# Altium integrated library Renesas Microprocessor SuperH.IntLib: 433 symbols (part 25 of 62)
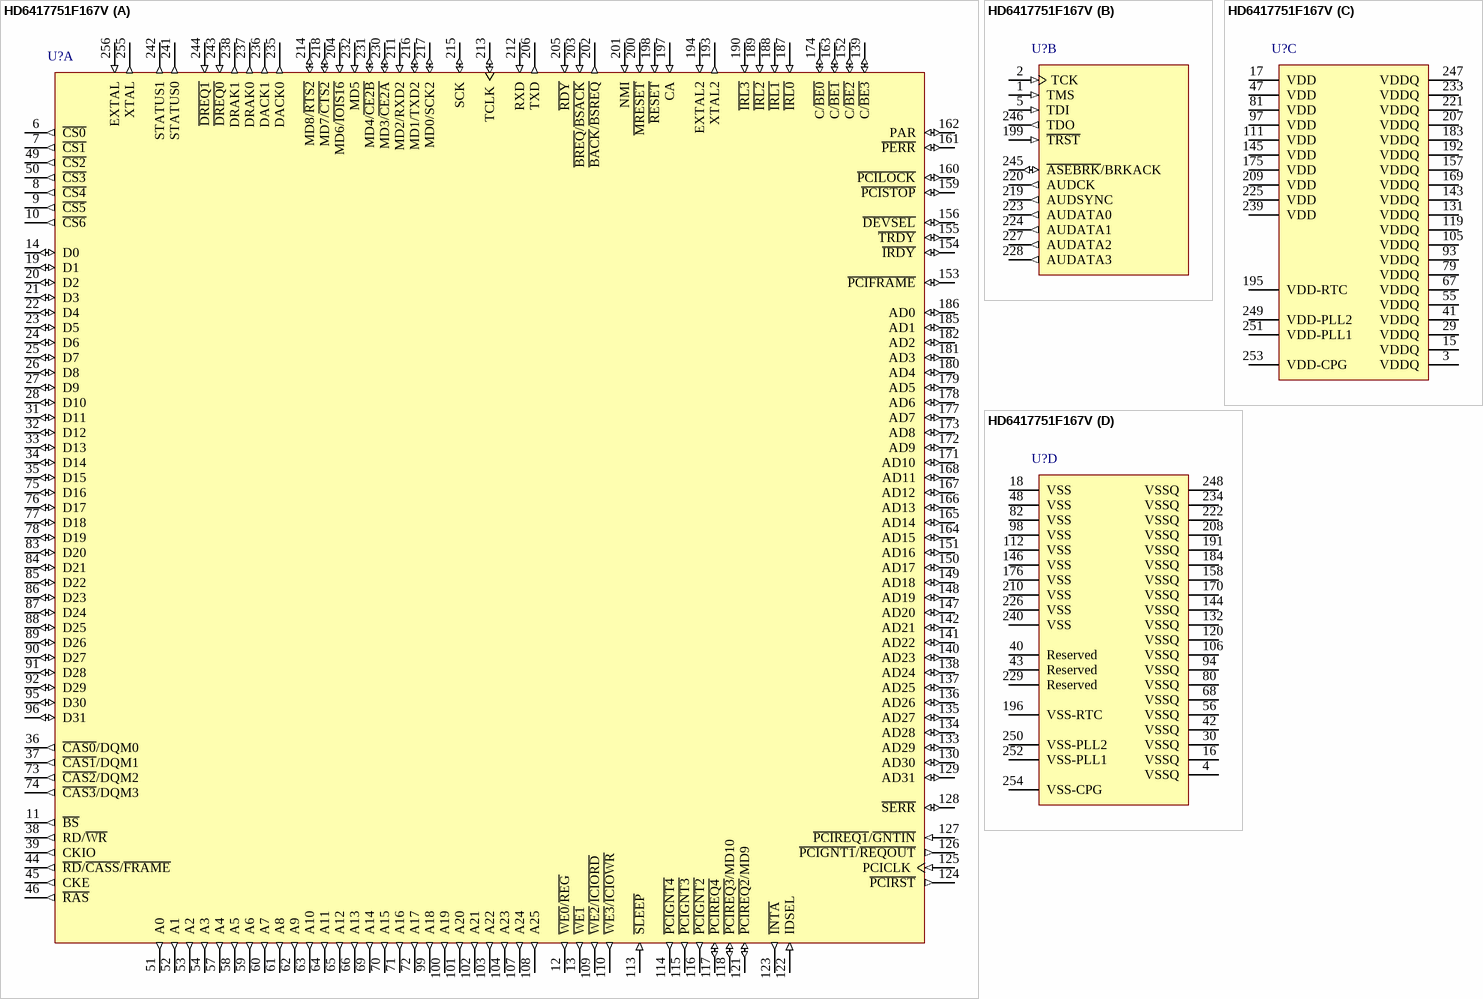
[diagram p297: symbol HD6417751F167V]

## HD6417751F167V
designator U?
32-Bit RISC Microcomputer, SH7750 Series, SH-4 core, 1.8V 167MHz, 256-pin QFP (Pb-Free), -20 to 75°C; Published: 28-Aug-2009; DatasheetVersion: Rev.4.00, Oct-2008; PackageVersion: Sep-2005; PackageReference: PRQP0256LA-B; Publisher: Altium Limited; PackageDescription: 256-Pin Plastic Quad Flat Pack, 28 x 28 x 3.2 mm Body, 0.4 mm Pitch; Supplier 1: Digi-Key; Supplier Part Number 1: HD6417751F167V-ND; Code_JEITA: P-HQFP256-28x28-0.40; ComponentLink1Description: Manufacturer Link; ComponentLink1URL: http://www.renesas.com/fmwk.jsp?cnt=sh7751_root.jsp&fp=/products/mpumcu/superh_family/sh7750_series/sh7751_group/; ComponentLink2Description: Datasheet; ComponentLink2URL: http://documentation.renesas.com/eng/products/mpumcu/rej09b0370_7751hm.pdf; ComponentLink3Description: Packaging Specification; ComponentLink3URL: http://sg.renesas.com/media/products/common_info/package/pdf/ic/code/prqp0256la_b.pdf
footprint PRQP0256LA-B_N (Shrink QFP, 256-Leads, Body 28x28mm, Pitch 0.4mm, IPC Medium Density)
footprint PRQP0256LA-B_L (Shrink QFP, 256-Leads, Body 28x28mm, Pitch 0.4mm, IPC High Density)
footprint PRQP0256LA-B_M (Shrink QFP, 256-Leads, Body 28x28mm, Pitch 0.4mm, IPC Low Density)
part A pins: 6 ~{CS0} (out) "Chip select 0", 7 ~{CS1} (out) "Chip select 1", 8 ~{CS4} (out) "Chip select 4", 9 ~{CS5} (out) "Chip select 5", 10 ~{CS6} (out) "Chip select 6", 11 ~{BS} (out) "Bus start", 12 ~{WE0}/~{REG} (out) "D7–D0 select signal", 13 ~{WE1} (out) "D15-D8 select signal", 14 D0 (io) "Data", 19 D1 (io) "Data", 20 D2 (io) "Data", 21 D3 (io) "Data", 22 D4 (io) "Data", 23 D5 (io) "Data", 24 D6 (io) "Data", 25 D7 (io) "Data", 26 D8 (io) "Data", 27 D9 (io) "Data", 28 D10 (io) "Data", 31 D11 (io) "Data", 32 D12 (io) "Data", 33 D13 (io) "Data", 34 D14 (io) "Data", 35 D15 (io) "Data", 36 ~{CAS0}/DQM0 (out) "D7–D0 select signal", 37 ~{CAS1}/DQM1 (out) "D15–D8 select signal", 38 RD/~{WR} (out) "Read/write", 39 CKIO (out) "Clock output", 44 ~{RD}/~{CASS}/~{FRAME} (out) "Read/CAS/FRAME", 45 CKE (out) "Clock output enable", 46 ~{RAS} (out) "RAS", 49 ~{CS2} (out) "Chip select 2", 50 ~{CS3} (out) "Chip select 3", 51 A0 (out) "Address", 52 A1 (out) "Address", 53 A2 (out) "Address", 54 A3 (out) "Address", 57 A4 (out) "Address", 58 A5 (out) "Address", 59 A6 (out) "Address", 60 A7 (out) "Address", 61 A8 (out) "Address", 62 A9 (out) "Address", 63 A10 (out) "Address", 64 A11 (out) "Address", 65 A12 (out) "Address", 66 A13 (out) "Address", 69 A14 (out) "Address", 70 A15 (out) "Address", 71 A16 (out) "Address", 72 A17 (out) "Address", 73 ~{CAS2}/DQM2 (out) "D23–D16 select signal", 74 ~{CAS3}/DQM3 (out) "D31–D24 select signal", 75 D16 (io) "Data", 76 D17 (io) "Data", 77 D18 (io) "Data", 78 D19 (io) "Data", 83 D20 (io) "Data", 84 D21 (io) "Data", 85 D22 (io) "Data", 86 D23 (io) "Data", 87 D24 (io) "Data", 88 D25 (io) "Data", 89 D26 (io) "Data", 90 D27 (io) "Data", 91 D28 (io) "Data", 92 D29 (io) "Data", 95 D30 (io) "Data", 96 D31 (io) "Data", 99 A18 (out) "Address", 100 A19 (out) "Address", 101 A20 (out) "Address", 102 A21 (out) "Address", 103 A22 (out) "Address", 104 A23 (out) "Address", 107 A24 (out) "Address", 108 A25 (out) "Address", 109 ~{WE2}/~{ICIORD} (out) "D23–D16 select signal", 110 ~{WE3}/~{ICIOWR} (out) "D31–D24 select signal", 113 ~{SLEEP} (in) "Sleep", 114 ~{PCIGNT4} (out) "Bus grant (host function)", 115 ~{PCIGNT3} (out) "Bus grant (host function)", 116 ~{PCIGNT2} (out) "Bus grant (host function)", 117 ~{PCIREQ4} (io) "Bus request (host function)", 118 ~{PCIREQ3}/MD10 (io) "Bus request (host function)/mode", 121 ~{PCIREQ2}/MD9 (io) "Bus request (host function)/mode", 122 IDSEL (in) "Configuration device select", 123 ~{INTA} (out) "Interrupt (async)", 124 ~{PCIRST} (out) "Reset output", 125 PCICLK (in) "PCI input clock", 126 ~{PCIGNT1}/~{REQOUT} (out) "Bus grant (host function)/bus request", 127 ~{PCIREQ1}/~{GNTIN} (in) "Bus request (host function)/bus grant", 128 ~{SERR} (io) "System error", 129 AD31 (io) "PCI address/data/port", 130 AD30 (io) "PCI address/data/port", 133 AD29 (io) "PCI address/data/port", 134 AD28 (io) "PCI address/data/port", 135 AD27 (io) "PCI address/data/port", 136 AD26 (io) "PCI address/data/port", 137 AD25 (io) "PCI address/data/port", 138 AD24 (io) "PCI address/data/port", 139 C/~{BE3} (io) "Command/byte enable", 140 AD23 (io) "PCI address/data/port", 141 AD22 (io) "PCI address/data/port", 142 AD21 (io) "PCI address/data/port", 147 AD20 (io) "PCI address/data/port", 148 AD19 (io) "PCI address/data/port", 149 AD18 (io) "PCI address/data/port", 150 AD17 (io) "PCI address/data/port", 151 AD16 (io) "PCI address/data/port", 152 C/~{BE2} (io) "Command/byte enable", 153 ~{PCIFRAME} (io) "Bus cycle", 154 ~{IRDY} (io) "Initiator ready", 155 ~{TRDY} (io) "Target ready", 156 ~{DEVSEL} (io) "Device select", 159 ~{PCISTOP} (io) "Transaction stop", 160 ~{PCILOCK} (io) "Exclusive access", 161 ~{PERR} (io) "Parity error", 162 PAR (io) "Parity", 163 C/~{BE1} (io) "Command/byte enable", 164 AD15 (io) "PCI address/data/port", 165 AD14 (io) "PCI address/data/port", 166 AD13 (io) "PCI address/data/port", 167 AD12 (io) "PCI address/data/port", 168 AD11 (io) "PCI address/data/port", 171 AD10 (io) "PCI address/data/port", 172 AD9 (io) "PCI address/data/port", 173 AD8 (io) "PCI address/data/port", 174 C/~{BE0} (io) "Command/byte enable", 177 AD7 (io) "PCI address/data/port", 178 AD6 (io) "PCI address/data/port", 179 AD5 (io) "PCI address/data/port", 180 AD4 (io) "PCI address/data/port", 181 AD3 (io) "PCI address/data/port", 182 AD2 (io) "PCI address/data/port", 185 AD1 (io) "PCI address/data/port", 186 AD0 (io) "PCI address/data/port", 187 ~{IRL0} (in) "Interrupt 0", 188 ~{IRL1} (in) "Interrupt 1", 189 ~{IRL2} (in) "Interrupt 2", 190 ~{IRL3} (in) "Interrupt 3", 193 XTAL2 (out) "RTC crystal resonator pin", 194 EXTAL2 (in) "RTC crystal resonator pin", 197 CA (in) "Hardware standby", 198 ~{RESET} (in) "Reset", 200 ~{MRESET} (in) "Manual reset", 201 NMI (in) "Nonmaskable interrupt", 202 ~{BACK}/~{BSREQ} (out) "Bus acknowledge/bus request", 203 ~{BREQ}/~{BSACK} (in) "Bus request/bus acknowledge", 204 MD6/~{IOIS16} (in) "Mode/IOIS16 (PCMCIA)", 205 ~{RDY} (in) "Bus ready", 206 TXD (out) "SCI data output", 211 MD2/RXD2 (in) "Mode/SCIF data input", 212 RXD (in) "SCI data input", 213 TCLK (io) "RTC/TMU clock", 214 MD8/~{RTS2} (io) "Mode/SCIF data control (RTS)", 215 SCK (io) "SCIF clock", 216 MD1/TXD2 (io) "Mode/SCIF data output", 217 MD0/SCK2 (io) "Mode/SCIF clock", 218 MD7/~{CTS2} (io) "Mode/SCIF data control (CTS)", 230 MD3/~{CE2A} (io) "Mode/PCMCIA-CE", 231 MD4/~{CE2B} (io) "Mode/PCMCIA-CE", 232 MD5 (in) "Mode", 235 DACK0 (out) "DMAC0 bus acknowledge", 236 DACK1 (out) "DMAC1 bus acknowledge", 237 DRAK0 (out) "DMAC0 request acknowledge", 238 DRAK1 (out) "DMAC1 request acknowledge", 241 STATUS0 (out) "Status", 242 STATUS1 (out) "Status", 243 ~{DREQ0} (in) "Request from DMAC0", 244 ~{DREQ1} (in) "Request from DMAC1", 255 XTAL (out) "Crystal resonator", 256 EXTAL (in) "External input clock/crystal resonator"
part B pins: 1 TMS (in) "Mode (H-UDI)", 2 TCK (in) "Clock (H-UDI)", 5 TDI (in) "Data in (H-UDI)", 199 ~{TRST} (in) "Reset (H-UDI)", 219 AUDSYNC (out) "AUDsync", 220 AUDCK (out) "AUDclock", 223 AUDATA0 (out) "AUDdata", 224 AUDATA1 (out) "AUDdata", 227 AUDATA2 (out) "AUDdata", 228 AUDATA3 (out) "AUDdata", 245 ~{ASEBRK}/BRKACK (io) "Pin break/acknowledge (H-UDI)", 246 TDO (out) "Data out (H-UDI)"
part C pins: 3 VDDQ (power) "IO VDD", 15 VDDQ (power) "IO VDD", 17 VDD (power) "Internal VDD", 29 VDDQ (power) "IO VDD", 41 VDDQ (power) "IO VDD", 47 VDD (power) "Internal VDD", 55 VDDQ (power) "IO VDD", 67 VDDQ (power) "IO VDD", 79 VDDQ (power) "IO VDD", 81 VDD (power) "Internal VDD", 93 VDDQ (power) "IO VDD", 97 VDD (power) "Internal VDD", 105 VDDQ (power) "IO VDD", 111 VDD (power) "Internal VDD", 119 VDDQ (power) "IO VDD", 131 VDDQ (power) "IO VDD", 143 VDDQ (power) "IO VDD", 145 VDD (power) "Internal VDD", 157 VDDQ (power) "IO VDD", 169 VDDQ (power) "IO VDD", 175 VDD (power) "Internal VDD", 183 VDDQ (power) "I/O VDD", 192 VDDQ (power) "I/O VDD", 195 VDD-RTC (power) "RTC VDD", 207 VDDQ (power) "IO VDD", 209 VDD (power) "Internal VDD", 221 VDDQ (power) "IO VDD", 225 VDD (power) "Internal VDD", 233 VDDQ (power) "IO VDD", 239 VDD (power) "Internal VDD", 247 VDDQ (power) "IO VDD", 249 VDD-PLL2 (power) "PLL2 VDD", 251 VDD-PLL1 (power) "PLL1 VDD", 253 VDD-CPG (power) "CPG VDD"
part D pins: 4 VSSQ (power) "IO GND", 16 VSSQ (power) "IO GND", 18 VSS (power) "Internal GND", 30 VSSQ (power) "IO GND", 40 Reserved "Do not connect", 42 VSSQ (power) "IO GND", 43 Reserved "Do not connect", 48 VSS (power) "Internal GND", 56 VSSQ (power) "IO GND", 68 VSSQ (power) "IO GND", 80 VSSQ (power) "IO GND", 82 VSS (power) "Internal GND", 94 VSSQ (power) "IO GND", 98 VSS (power) "Internal GND", 106 VSSQ (power) "IO GND", 112 VSS (power) "Internal GND", 120 VSSQ (power) "IO GND", 132 VSSQ (power) "IO GND", 144 VSSQ (power) "IO GND", 146 VSS (power) "Internal GND", 158 VSSQ (power) "IO GND", 170 VSSQ (power) "IO GND", 176 VSS (power) "Internal GND", 184 VSSQ (power) "I/O GND", 191 VSSQ (power) "I/O GND", 196 VSS-RTC (power) "RTC GND", 208 VSSQ (power) "IO GND", 210 VSS (power) "Internal GND", 222 VSSQ (power) "IO GND", 226 VSS (power) "Internal GND", 229 Reserved "Do not connect", 234 VSSQ (power) "IO GND", 240 VSS (power) "Internal GND", 248 VSSQ (power) "IO GND", 250 VSS-PLL2 (power) "PLL2 GND", 252 VSS-PLL1 (power) "PLL1 GND", 254 VSS-CPG (power) "CPG GND"

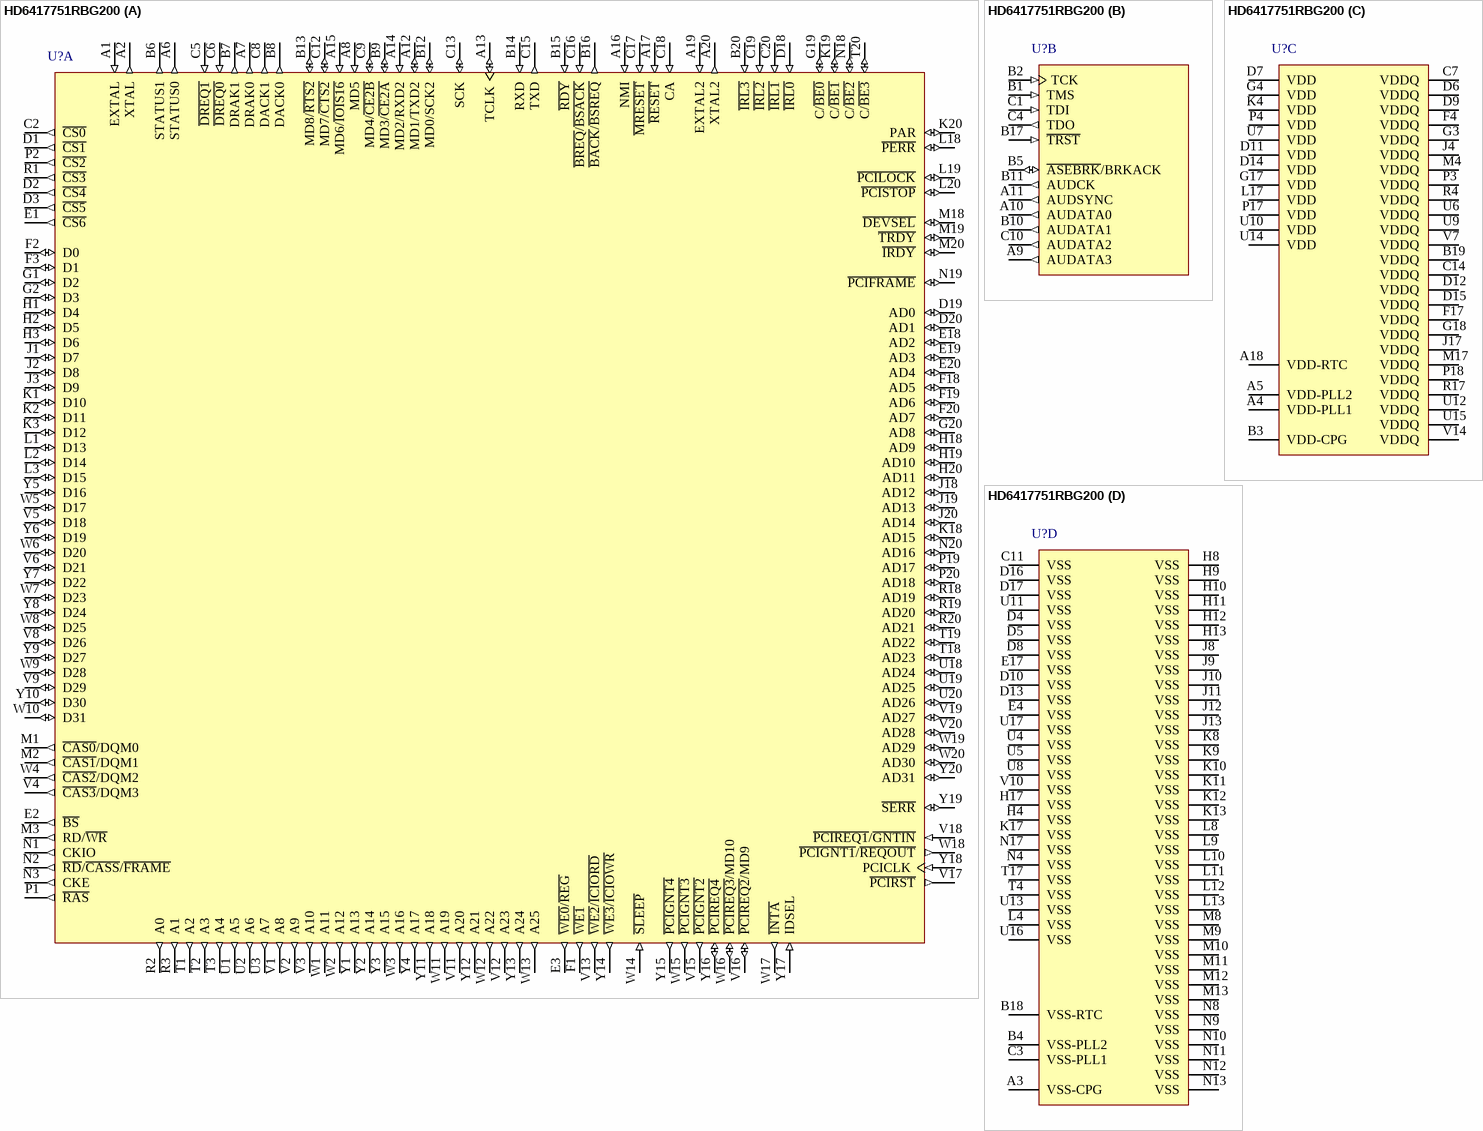
[diagram p90: symbol HD6417751RBG200]

## HD6417751RBG200
designator U?
32-Bit RISC Microcomputer, SH7750 Series, SH-4 core, 1.5V 200MHz, 292-pin BGA, -20 to 75°C; Published: 28-Aug-2009; DatasheetVersion: Rev.4.00, Oct-2008; PackageVersion: Oct-2006; PackageReference: PRBG0292GA-A; Publisher: Altium Limited; PackageDescription: 292-Ball Plastic Fine Pitch Ball Grid Array, 17 x 17 mm Body, 0.8 mm Pitch; Code_JEITA: P-FBGA292-17x17-0.80; ComponentLink1Description: Manufacturer Link; ComponentLink1URL: http://www.renesas.com/fmwk.jsp?cnt=sh7751r_root.jsp&fp=/products/mpumcu/superh_family/sh7750_series/sh7751r_group/; ComponentLink2Description: Datasheet; ComponentLink2URL: http://documentation.renesas.com/eng/products/mpumcu/rej09b0370_7751hm.pdf; ComponentLink3Description: Packaging Specification; ComponentLink3URL: http://sg.renesas.com/media/products/common_info/package/pdf/ic/code/prbg0292ga_a.pdf
footprint PRBG0292GA-A (BGA, 292-Leads, Body 17x17mm, Pitch 0.8mm)
part A pins: A1 EXTAL (in) "External input clock/crystal resonator", A2 XTAL (out) "Crystal resonator", A6 STATUS0 (out) "Status", A7 DRAK0 (out) "DMAC0 request acknowledge", A8 MD5 (in) "Mode", A12 MD1/TXD2 (io) "Mode/SCIF data output", A13 TCLK (io) "RTC/TMU clock", A14 MD2/RXD2 (in) "Mode/SCIF data input", A15 MD6/~{IOIS16} (in) "Mode/IOIS16 (PCMCIA)", A16 NMI (in) "Nonmaskable interrupt", A17 ~{RESET} (in) "Reset", A19 EXTAL2 (in) "RTC crystal resonator pin", A20 XTAL2 (out) "RTC crystal resonator pin", B6 STATUS1 (out) "Status", B7 DRAK1 (out) "DMAC1 request acknowledge", B8 DACK0 (out) "DMAC0 bus acknowledge", B9 MD3/~{CE2A} (io) "Mode/PCMCIA-CE", B12 MD0/SCK2 (io) "Mode/SCIF clock", B13 MD8/~{RTS2} (io) "Mode/SCIF data control (RTS)", B14 RXD (in) "SCI data input", B15 ~{RDY} (in) "Bus ready", B16 ~{BACK}/~{BSREQ} (out) "Bus acknowledge/bus request", B20 ~{IRL3} (in) "Interrupt 3", C2 ~{CS0} (out) "Chip select 0", C5 ~{DREQ1} (in) "Request from DMAC1", C6 ~{DREQ0} (in) "Request from DMAC0", C8 DACK1 (out) "DMAC1 bus acknowledge", C9 MD4/~{CE2B} (io) "Mode/PCMCIA-CE", C12 MD7/~{CTS2} (io) "Mode/SCIF data control (CTS)", C13 SCK (io) "SCIF clock", C15 TXD (out) "SCI data output", C16 ~{BREQ}/~{BSACK} (in) "Bus request/bus acknowledge", C17 ~{MRESET} (in) "Manual reset", C18 CA (in) "Hardware standby", C19 ~{IRL2} (in) "Interrupt 2", C20 ~{IRL1} (in) "Interrupt 1", D1 ~{CS1} (out) "Chip select 1", D2 ~{CS4} (out) "Chip select 4", D3 ~{CS5} (out) "Chip select 5", D18 ~{IRL0} (in) "Interrupt 0", D19 AD0 (io) "PCI address/data/port", D20 AD1 (io) "PCI address/data/port", E1 ~{CS6} (out) "Chip select 6", E2 ~{BS} (out) "Bus start", E3 ~{WE0}/~{REG} (out) "D7-D0 select signal", E18 AD2 (io) "PCI address/data/port", E19 AD3 (io) "PCI address/data/port", E20 AD4 (io) "PCI address/data/port", F1 ~{WE1} (out) "D15-D8 select signal", F2 D0 (io) "Data", F3 D1 (io) "Data", F18 AD5 (io) "PCI address/data/port", F19 AD6 (io) "PCI address/data/port", F20 AD7 (io) "PCI address/data/port", G1 D2 (io) "Data", G2 D3 (io) "Data", G19 C/~{BE0} (io) "Command/byte enable", G20 AD8 (io) "PCI address/data/port", H1 D4 (io) "Data", H2 D5 (io) "Data", H3 D6 (io) "Data", H18 AD9 (io) "PCI address/data/port", H19 AD10 (io) "PCI address/data/port", H20 AD11 (io) "PCI address/data/port", J1 D7 (io) "Data", J2 D8 (io) "Data", J3 D9 (io) "Data", J18 AD12 (io) "PCI address/data/port", J19 AD13 (io) "PCI address/data/port", J20 AD14 (io) "PCI address/data/port", K1 D10 (io) "Data", K2 D11 (io) "Data", K3 D12 (io) "Data", K18 AD15 (io) "PCI address/data/port", K19 C/~{BE1} (io) "Command/byte enable", K20 PAR (io) "Parity", L1 D13 (io) "Data", L2 D14 (io) "Data", L3 D15 (io) "Data", L18 ~{PERR} (io) "Parity error", L19 ~{PCILOCK} (io) "Exclusive access", L20 ~{PCISTOP} (io) "Transaction stop", M1 ~{CAS0}/DQM0 (out) "D7-D0 select signal", M2 ~{CAS1}/DQM1 (out) "D15-D8 select signal", M3 RD/~{WR} (out) "Read/write", M18 ~{DEVSEL} (io) "Device select", M19 ~{TRDY} (io) "Target ready", M20 ~{IRDY} (io) "Initiator ready", N1 CKIO (out) "Clock output", N2 ~{RD}/~{CASS}/~{FRAME} (out) "Read/CAS/FRAME", N3 CKE (out) "Clock output enable", N18 C/~{BE2} (io) "Command/byte enable", N19 ~{PCIFRAME} (io) "Bus cycle", N20 AD16 (io) "PCI address/data/port", P1 ~{RAS} (out) "RAS", P2 ~{CS2} (out) "Chip select 2", P19 AD17 (io) "PCI address/data/port", P20 AD18 (io) "PCI address/data/port", R1 ~{CS3} (out) "Chip select 3", R2 A0 (out) "Address", R3 A1 (out) "Address", R18 AD19 (io) "PCI address/data/port", R19 AD20 (io) "PCI address/data/port", R20 AD21 (io) "PCI address/data/port", T1 A2 (out) "Address", T2 A3 (out) "Address", T3 A4 (out) "Address", T18 AD23 (io) "PCI address/data/port", T19 AD22 (io) "PCI address/data/port", T20 C/~{BE3} (io) "Command/byte enable", U1 A5 (out) "Address", U2 A6 (out) "Address", U3 A7 (out) "Address", U18 AD24 (io) "PCI address/data/port", U19 AD25 (io) "PCI address/data/port", U20 AD26 (io) "PCI address/data/port", V1 A8 (out) "Address", V2 A9 (out) "Address", V3 A10 (out) "Address", V4 ~{CAS3}/DQM3 (out) "D31-D24 select signal", V5 D18 (io) "Data", V6 D21 (io) "Data", V8 D26 (io) "Data", V9 D29 (io) "Data", V11 A20 (out) "Address", V12 A23 (out) "Address", V13 ~{WE2}/~{ICIORD} (out) "D23-D16 select signal", V15 ~{PCIGNT2} (out) "Bus grant (host function)", V16 ~{PCIREQ2}/MD9 (io) "Bus request (host function)/mode MD9", V17 ~{PCIRST} (out) "Reset output", V18 ~{PCIREQ1}/~{GNTIN} (in) "Bus request (host function)/bus grant", V19 AD27 (io) "PCI address/data/port", V20 AD28 (io) "PCI address/data/port", W1 A11 (out) "Address", W2 A12 (out) "Address", W3 A16 (out) "Address", W4 ~{CAS2}/DQM2 (out) "D23-D16 select signal", W5 D17 (io) "Data", W6 D20 (io) "Data", W7 D23 (io) "Data", W8 D25 (io) "Data", W9 D28 (io) "Data", W10 D31 (io) "Data", W11 A19 (out) "Address", W12 A22 (out) "Address", W13 A25 (out) "Address", W14 ~{SLEEP} (in) "Sleep", W15 ~{PCIGNT3} (out) "Bus grant (host function)", W16 ~{PCIREQ3}/MD10 (io) "Bus request (host function)/mode MD10", W17 ~{INTA} (out) "Interrupt (async)", W18 ~{PCIGNT1}/~{REQOUT} (out) "Bus grant (host function)/bus request", W19 AD29 (io) "PCI address/data/port", W20 AD30 (io) "PCI address/data/port", Y1 A13 (out) "Address", Y2 A14 (out) "Address", Y3 A15 (out) "Address", Y4 A17 (out) "Address", Y5 D16 (io) "Data", Y6 D19 (io) "Data", Y7 D22 (io) "Data", Y8 D24 (io) "Data", Y9 D27 (io) "Data", Y10 D30 (io) "Data", Y11 A18 (out) "Address", Y12 A21 (out) "Address", Y13 A24 (out) "Address", Y14 ~{WE3}/~{ICIOWR} (out) "D31-D24 select signal", Y15 ~{PCIGNT4} (out) "Bus grant (host function)", Y16 ~{PCIREQ4} (io) "Bus request (host function)", Y17 IDSEL (in) "Configuration device select", Y18 PCICLK (in) "PCI input clock", Y19 ~{SERR} (io) "System error", Y20 AD31 (io) "PCI address/data/port"
part B pins: A9 AUDATA3 (out) "AUDdata", A10 AUDATA0 (out) "AUDdata", A11 AUDSYNC (out) "AUDsync", B1 TMS (in) "Mode (H-UDI)", B2 TCK (in) "Clock (H-UDI)", B5 ~{ASEBRK}/BRKACK (io) "Pin break/acknowledge (H-UDI)", B10 AUDATA1 (out) "AUDdata", B11 AUDCK (out) "AUDclock", B17 ~{TRST} (in) "Reset (H-UDI)", C1 TDI (in) "Data in (H-UDI)", C4 TDO (out) "Data out (H-UDI)", C10 AUDATA2 (out) "AUDdata"
part C pins: A4 VDD-PLL1 (power) "PLL1 VDD", A5 VDD-PLL2 (power) "PLL2 VDD", A18 VDD-RTC (power) "RTC VDD", B3 VDD-CPG (power) "CPG VDD", B19 VDDQ (power) "IO VDD", C7 VDDQ (power) "IO VDD", C14 VDDQ (power) "IO VDD", D6 VDDQ (power) "IO VDD", D7 VDD (power) "Internal VDD", D9 VDDQ (power) "IO VDD", D11 VDD (power) "Internal VDD", D12 VDDQ (power) "IO VDD", D14 VDD (power) "Internal VDD", D15 VDDQ (power) "IO VDD", F4 VDDQ (power) "IO VDD", F17 VDDQ (power) "IO VDD", G3 VDDQ (power) "IO VDD", G4 VDD (power) "Internal VDD", G17 VDD (power) "Internal VDD", G18 VDDQ (power) "IO VDD", J4 VDDQ (power) "IO VDD", J17 VDDQ (power) "I/O VDD", K4 VDD (power) "Internal VDD", L17 VDD (power) "Internal VDD", M4 VDDQ (power) "IO VDD", M17 VDDQ (power) "IO VDD", P3 VDDQ (power) "IO VDD", P4 VDD (power) "Internal VDD", P17 VDD (power) "Internal VDD", P18 VDDQ (power) "IO VDD", R4 VDDQ (power) "IO VDD", R17 VDDQ (power) "IO VDD", U6 VDDQ (power) "IO VDD", U7 VDD (power) "Internal VDD", U9 VDDQ (power) "IO VDD", U10 VDD (power) "Internal VDD", U12 VDDQ (power) "IO VDD", U14 VDD (power) "Internal VDD", U15 VDDQ (power) "IO VDD", V7 VDDQ (power) "IO VDD", V14 VDDQ (power) "IO VDD"
part D pins: A3 VSS-CPG (power) "CPG GND", B4 VSS-PLL2 (power) "PLL2 GND", B18 VSS-RTC (power) "RTC GND", C3 VSS-PLL1 (power) "PLL1 GND", C11 VSS (power) "GND", D4 VSS (power) "GND", D5 VSS (power) "GND", D8 VSS (power) "GND", D10 VSS (power) "GND", D13 VSS (power) "GND", D16 VSS (power) "GND", D17 VSS (power) "GND", E4 VSS (power) "GND", E17 VSS (power) "GND", H4 VSS (power) "GND", H8 VSS (power) "GND", H9 VSS (power) "GND", H10 VSS (power) "GND", H11 VSS (power) "GND", H12 VSS (power) "GND", H13 VSS (power) "GND", H17 VSS (power) "GND", J8 VSS (power) "GND", J9 VSS (power) "GND", J10 VSS (power) "GND", J11 VSS (power) "GND", J12 VSS (power) "GND", J13 VSS (power) "GND", K8 VSS (power) "GND", K9 VSS (power) "GND", K10 VSS (power) "GND", K11 VSS (power) "GND", K12 VSS (power) "GND", K13 VSS (power) "GND", K17 VSS (power) "GND", L4 VSS (power) "GND", L8 VSS (power) "GND", L9 VSS (power) "GND", L10 VSS (power) "GND", L11 VSS (power) "GND", L12 VSS (power) "GND", L13 VSS (power) "GND", M8 VSS (power) "GND", M9 VSS (power) "GND", M10 VSS (power) "GND", M11 VSS (power) "GND", M12 VSS (power) "GND", M13 VSS (power) "GND", N4 VSS (power) "GND", N8 VSS (power) "GND", N9 VSS (power) "GND", N10 VSS (power) "GND", N11 VSS (power) "GND", N12 VSS (power) "GND", N13 VSS (power) "GND", N17 VSS (power) "GND", T4 VSS (power) "GND", T17 VSS (power) "GND", U4 VSS (power) "GND", U5 VSS (power) "GND", U8 VSS (power) "GND", U11 VSS (power) "GND", U13 VSS (power) "GND", U16 VSS (power) "GND", U17 VSS (power) "GND", V10 VSS (power) "GND"

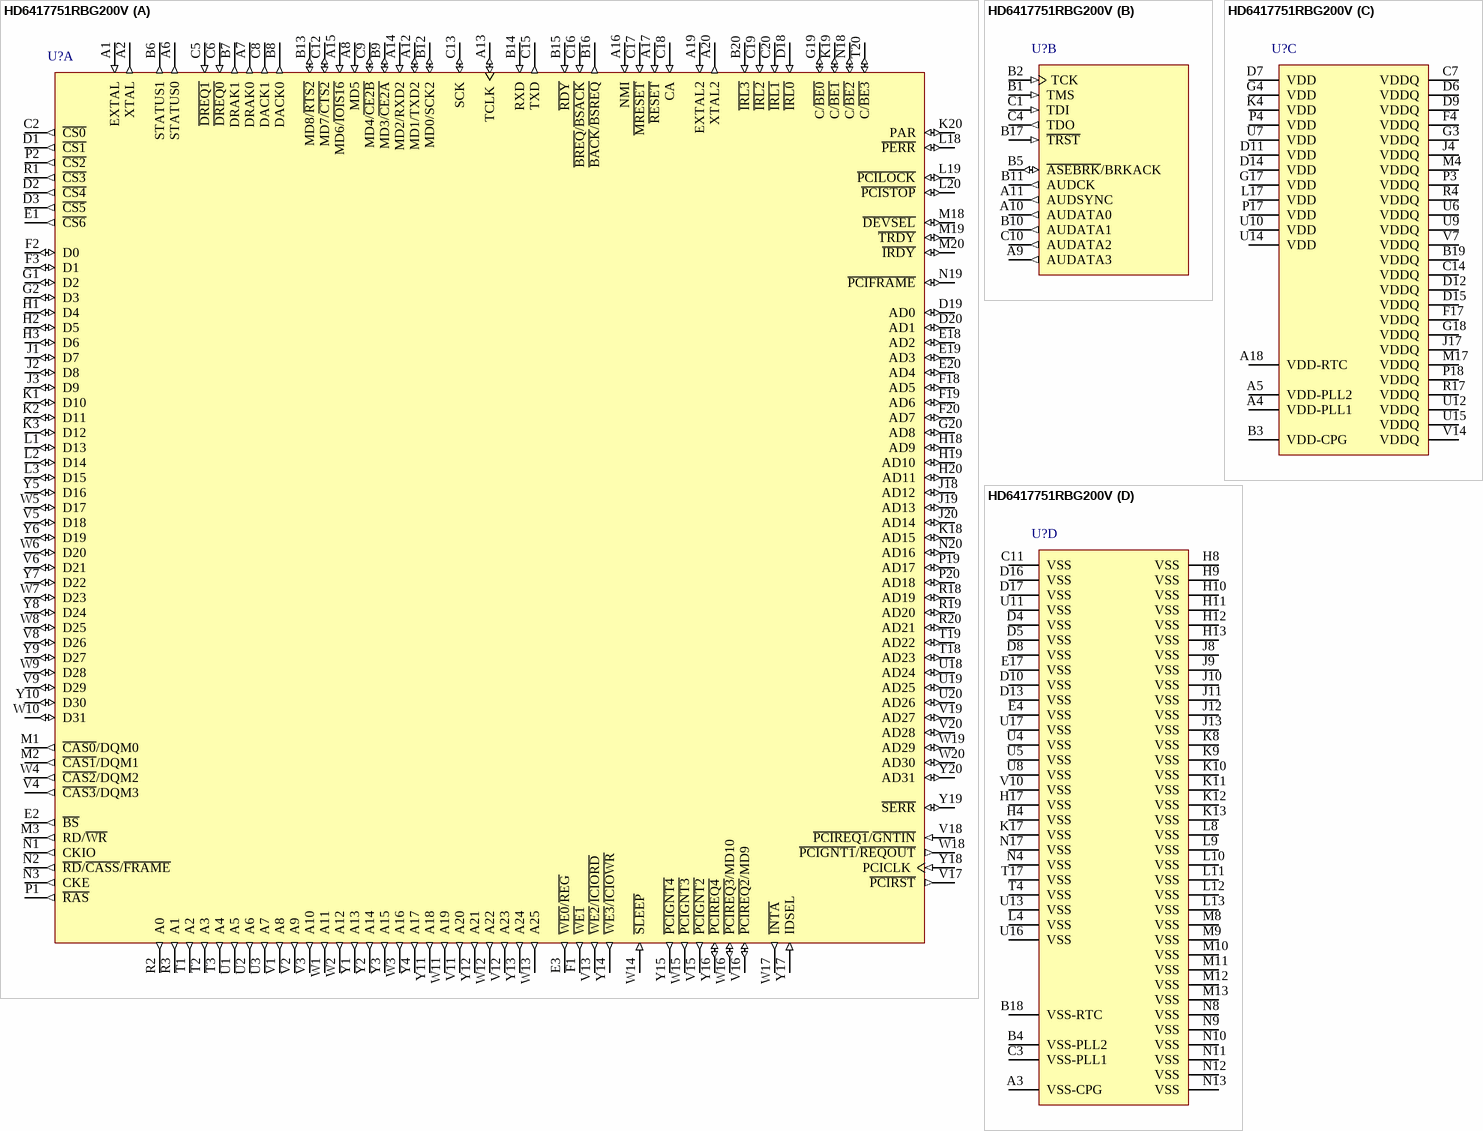
[diagram p91: symbol HD6417751RBG200V]

## HD6417751RBG200V
designator U?
32-Bit RISC Microcomputer, SH7750 Series, SH-4 core, 1.5V 200MHz, 292-pin BGA (Pb-Free), -20 to 75°C; Published: 28-Aug-2009; DatasheetVersion: Rev.4.00, Oct-2008; PackageVersion: Oct-2006; PackageReference: PRBG0292GA-A; Publisher: Altium Limited; PackageDescription: 292-Ball Plastic Fine Pitch Ball Grid Array, 17 x 17 mm Body, 0.8 mm Pitch; Code_JEITA: P-FBGA292-17x17-0.80; ComponentLink1Description: Manufacturer Link; ComponentLink1URL: http://www.renesas.com/fmwk.jsp?cnt=sh7751r_root.jsp&fp=/products/mpumcu/superh_family/sh7750_series/sh7751r_group/; ComponentLink2Description: Datasheet; ComponentLink2URL: http://documentation.renesas.com/eng/products/mpumcu/rej09b0370_7751hm.pdf; ComponentLink3Description: Packaging Specification; ComponentLink3URL: http://sg.renesas.com/media/products/common_info/package/pdf/ic/code/prbg0292ga_a.pdf
footprint PRBG0292GA-A (BGA, 292-Leads, Body 17x17mm, Pitch 0.8mm)
part A pins: A1 EXTAL (in) "External input clock/crystal resonator", A2 XTAL (out) "Crystal resonator", A6 STATUS0 (out) "Status", A7 DRAK0 (out) "DMAC0 request acknowledge", A8 MD5 (in) "Mode", A12 MD1/TXD2 (io) "Mode/SCIF data output", A13 TCLK (io) "RTC/TMU clock", A14 MD2/RXD2 (in) "Mode/SCIF data input", A15 MD6/~{IOIS16} (in) "Mode/IOIS16 (PCMCIA)", A16 NMI (in) "Nonmaskable interrupt", A17 ~{RESET} (in) "Reset", A19 EXTAL2 (in) "RTC crystal resonator pin", A20 XTAL2 (out) "RTC crystal resonator pin", B6 STATUS1 (out) "Status", B7 DRAK1 (out) "DMAC1 request acknowledge", B8 DACK0 (out) "DMAC0 bus acknowledge", B9 MD3/~{CE2A} (io) "Mode/PCMCIA-CE", B12 MD0/SCK2 (io) "Mode/SCIF clock", B13 MD8/~{RTS2} (io) "Mode/SCIF data control (RTS)", B14 RXD (in) "SCI data input", B15 ~{RDY} (in) "Bus ready", B16 ~{BACK}/~{BSREQ} (out) "Bus acknowledge/bus request", B20 ~{IRL3} (in) "Interrupt 3", C2 ~{CS0} (out) "Chip select 0", C5 ~{DREQ1} (in) "Request from DMAC1", C6 ~{DREQ0} (in) "Request from DMAC0", C8 DACK1 (out) "DMAC1 bus acknowledge", C9 MD4/~{CE2B} (io) "Mode/PCMCIA-CE", C12 MD7/~{CTS2} (io) "Mode/SCIF data control (CTS)", C13 SCK (io) "SCIF clock", C15 TXD (out) "SCI data output", C16 ~{BREQ}/~{BSACK} (in) "Bus request/bus acknowledge", C17 ~{MRESET} (in) "Manual reset", C18 CA (in) "Hardware standby", C19 ~{IRL2} (in) "Interrupt 2", C20 ~{IRL1} (in) "Interrupt 1", D1 ~{CS1} (out) "Chip select 1", D2 ~{CS4} (out) "Chip select 4", D3 ~{CS5} (out) "Chip select 5", D18 ~{IRL0} (in) "Interrupt 0", D19 AD0 (io) "PCI address/data/port", D20 AD1 (io) "PCI address/data/port", E1 ~{CS6} (out) "Chip select 6", E2 ~{BS} (out) "Bus start", E3 ~{WE0}/~{REG} (out) "D7-D0 select signal", E18 AD2 (io) "PCI address/data/port", E19 AD3 (io) "PCI address/data/port", E20 AD4 (io) "PCI address/data/port", F1 ~{WE1} (out) "D15-D8 select signal", F2 D0 (io) "Data", F3 D1 (io) "Data", F18 AD5 (io) "PCI address/data/port", F19 AD6 (io) "PCI address/data/port", F20 AD7 (io) "PCI address/data/port", G1 D2 (io) "Data", G2 D3 (io) "Data", G19 C/~{BE0} (io) "Command/byte enable", G20 AD8 (io) "PCI address/data/port", H1 D4 (io) "Data", H2 D5 (io) "Data", H3 D6 (io) "Data", H18 AD9 (io) "PCI address/data/port", H19 AD10 (io) "PCI address/data/port", H20 AD11 (io) "PCI address/data/port", J1 D7 (io) "Data", J2 D8 (io) "Data", J3 D9 (io) "Data", J18 AD12 (io) "PCI address/data/port", J19 AD13 (io) "PCI address/data/port", J20 AD14 (io) "PCI address/data/port", K1 D10 (io) "Data", K2 D11 (io) "Data", K3 D12 (io) "Data", K18 AD15 (io) "PCI address/data/port", K19 C/~{BE1} (io) "Command/byte enable", K20 PAR (io) "Parity", L1 D13 (io) "Data", L2 D14 (io) "Data", L3 D15 (io) "Data", L18 ~{PERR} (io) "Parity error", L19 ~{PCILOCK} (io) "Exclusive access", L20 ~{PCISTOP} (io) "Transaction stop", M1 ~{CAS0}/DQM0 (out) "D7-D0 select signal", M2 ~{CAS1}/DQM1 (out) "D15-D8 select signal", M3 RD/~{WR} (out) "Read/write", M18 ~{DEVSEL} (io) "Device select", M19 ~{TRDY} (io) "Target ready", M20 ~{IRDY} (io) "Initiator ready", N1 CKIO (out) "Clock output", N2 ~{RD}/~{CASS}/~{FRAME} (out) "Read/CAS/FRAME", N3 CKE (out) "Clock output enable", N18 C/~{BE2} (io) "Command/byte enable", N19 ~{PCIFRAME} (io) "Bus cycle", N20 AD16 (io) "PCI address/data/port", P1 ~{RAS} (out) "RAS", P2 ~{CS2} (out) "Chip select 2", P19 AD17 (io) "PCI address/data/port", P20 AD18 (io) "PCI address/data/port", R1 ~{CS3} (out) "Chip select 3", R2 A0 (out) "Address", R3 A1 (out) "Address", R18 AD19 (io) "PCI address/data/port", R19 AD20 (io) "PCI address/data/port", R20 AD21 (io) "PCI address/data/port", T1 A2 (out) "Address", T2 A3 (out) "Address", T3 A4 (out) "Address", T18 AD23 (io) "PCI address/data/port", T19 AD22 (io) "PCI address/data/port", T20 C/~{BE3} (io) "Command/byte enable", U1 A5 (out) "Address", U2 A6 (out) "Address", U3 A7 (out) "Address", U18 AD24 (io) "PCI address/data/port", U19 AD25 (io) "PCI address/data/port", U20 AD26 (io) "PCI address/data/port", V1 A8 (out) "Address", V2 A9 (out) "Address", V3 A10 (out) "Address", V4 ~{CAS3}/DQM3 (out) "D31-D24 select signal", V5 D18 (io) "Data", V6 D21 (io) "Data", V8 D26 (io) "Data", V9 D29 (io) "Data", V11 A20 (out) "Address", V12 A23 (out) "Address", V13 ~{WE2}/~{ICIORD} (out) "D23-D16 select signal", V15 ~{PCIGNT2} (out) "Bus grant (host function)", V16 ~{PCIREQ2}/MD9 (io) "Bus request (host function)/mode MD9", V17 ~{PCIRST} (out) "Reset output", V18 ~{PCIREQ1}/~{GNTIN} (in) "Bus request (host function)/bus grant", V19 AD27 (io) "PCI address/data/port", V20 AD28 (io) "PCI address/data/port", W1 A11 (out) "Address", W2 A12 (out) "Address", W3 A16 (out) "Address", W4 ~{CAS2}/DQM2 (out) "D23-D16 select signal", W5 D17 (io) "Data", W6 D20 (io) "Data", W7 D23 (io) "Data", W8 D25 (io) "Data", W9 D28 (io) "Data", W10 D31 (io) "Data", W11 A19 (out) "Address", W12 A22 (out) "Address", W13 A25 (out) "Address", W14 ~{SLEEP} (in) "Sleep", W15 ~{PCIGNT3} (out) "Bus grant (host function)", W16 ~{PCIREQ3}/MD10 (io) "Bus request (host function)/mode MD10", W17 ~{INTA} (out) "Interrupt (async)", W18 ~{PCIGNT1}/~{REQOUT} (out) "Bus grant (host function)/bus request", W19 AD29 (io) "PCI address/data/port", W20 AD30 (io) "PCI address/data/port", Y1 A13 (out) "Address", Y2 A14 (out) "Address", Y3 A15 (out) "Address", Y4 A17 (out) "Address", Y5 D16 (io) "Data", Y6 D19 (io) "Data", Y7 D22 (io) "Data", Y8 D24 (io) "Data", Y9 D27 (io) "Data", Y10 D30 (io) "Data", Y11 A18 (out) "Address", Y12 A21 (out) "Address", Y13 A24 (out) "Address", Y14 ~{WE3}/~{ICIOWR} (out) "D31-D24 select signal", Y15 ~{PCIGNT4} (out) "Bus grant (host function)", Y16 ~{PCIREQ4} (io) "Bus request (host function)", Y17 IDSEL (in) "Configuration device select", Y18 PCICLK (in) "PCI input clock", Y19 ~{SERR} (io) "System error", Y20 AD31 (io) "PCI address/data/port"
part B pins: A9 AUDATA3 (out) "AUDdata", A10 AUDATA0 (out) "AUDdata", A11 AUDSYNC (out) "AUDsync", B1 TMS (in) "Mode (H-UDI)", B2 TCK (in) "Clock (H-UDI)", B5 ~{ASEBRK}/BRKACK (io) "Pin break/acknowledge (H-UDI)", B10 AUDATA1 (out) "AUDdata", B11 AUDCK (out) "AUDclock", B17 ~{TRST} (in) "Reset (H-UDI)", C1 TDI (in) "Data in (H-UDI)", C4 TDO (out) "Data out (H-UDI)", C10 AUDATA2 (out) "AUDdata"
part C pins: A4 VDD-PLL1 (power) "PLL1 VDD", A5 VDD-PLL2 (power) "PLL2 VDD", A18 VDD-RTC (power) "RTC VDD", B3 VDD-CPG (power) "CPG VDD", B19 VDDQ (power) "IO VDD", C7 VDDQ (power) "IO VDD", C14 VDDQ (power) "IO VDD", D6 VDDQ (power) "IO VDD", D7 VDD (power) "Internal VDD", D9 VDDQ (power) "IO VDD", D11 VDD (power) "Internal VDD", D12 VDDQ (power) "IO VDD", D14 VDD (power) "Internal VDD", D15 VDDQ (power) "IO VDD", F4 VDDQ (power) "IO VDD", F17 VDDQ (power) "IO VDD", G3 VDDQ (power) "IO VDD", G4 VDD (power) "Internal VDD", G17 VDD (power) "Internal VDD", G18 VDDQ (power) "IO VDD", J4 VDDQ (power) "IO VDD", J17 VDDQ (power) "I/O VDD", K4 VDD (power) "Internal VDD", L17 VDD (power) "Internal VDD", M4 VDDQ (power) "IO VDD", M17 VDDQ (power) "IO VDD", P3 VDDQ (power) "IO VDD", P4 VDD (power) "Internal VDD", P17 VDD (power) "Internal VDD", P18 VDDQ (power) "IO VDD", R4 VDDQ (power) "IO VDD", R17 VDDQ (power) "IO VDD", U6 VDDQ (power) "IO VDD", U7 VDD (power) "Internal VDD", U9 VDDQ (power) "IO VDD", U10 VDD (power) "Internal VDD", U12 VDDQ (power) "IO VDD", U14 VDD (power) "Internal VDD", U15 VDDQ (power) "IO VDD", V7 VDDQ (power) "IO VDD", V14 VDDQ (power) "IO VDD"
part D pins: A3 VSS-CPG (power) "CPG GND", B4 VSS-PLL2 (power) "PLL2 GND", B18 VSS-RTC (power) "RTC GND", C3 VSS-PLL1 (power) "PLL1 GND", C11 VSS (power) "GND", D4 VSS (power) "GND", D5 VSS (power) "GND", D8 VSS (power) "GND", D10 VSS (power) "GND", D13 VSS (power) "GND", D16 VSS (power) "GND", D17 VSS (power) "GND", E4 VSS (power) "GND", E17 VSS (power) "GND", H4 VSS (power) "GND", H8 VSS (power) "GND", H9 VSS (power) "GND", H10 VSS (power) "GND", H11 VSS (power) "GND", H12 VSS (power) "GND", H13 VSS (power) "GND", H17 VSS (power) "GND", J8 VSS (power) "GND", J9 VSS (power) "GND", J10 VSS (power) "GND", J11 VSS (power) "GND", J12 VSS (power) "GND", J13 VSS (power) "GND", K8 VSS (power) "GND", K9 VSS (power) "GND", K10 VSS (power) "GND", K11 VSS (power) "GND", K12 VSS (power) "GND", K13 VSS (power) "GND", K17 VSS (power) "GND", L4 VSS (power) "GND", L8 VSS (power) "GND", L9 VSS (power) "GND", L10 VSS (power) "GND", L11 VSS (power) "GND", L12 VSS (power) "GND", L13 VSS (power) "GND", M8 VSS (power) "GND", M9 VSS (power) "GND", M10 VSS (power) "GND", M11 VSS (power) "GND", M12 VSS (power) "GND", M13 VSS (power) "GND", N4 VSS (power) "GND", N8 VSS (power) "GND", N9 VSS (power) "GND", N10 VSS (power) "GND", N11 VSS (power) "GND", N12 VSS (power) "GND", N13 VSS (power) "GND", N17 VSS (power) "GND", T4 VSS (power) "GND", T17 VSS (power) "GND", U4 VSS (power) "GND", U5 VSS (power) "GND", U8 VSS (power) "GND", U11 VSS (power) "GND", U13 VSS (power) "GND", U16 VSS (power) "GND", U17 VSS (power) "GND", V10 VSS (power) "GND"

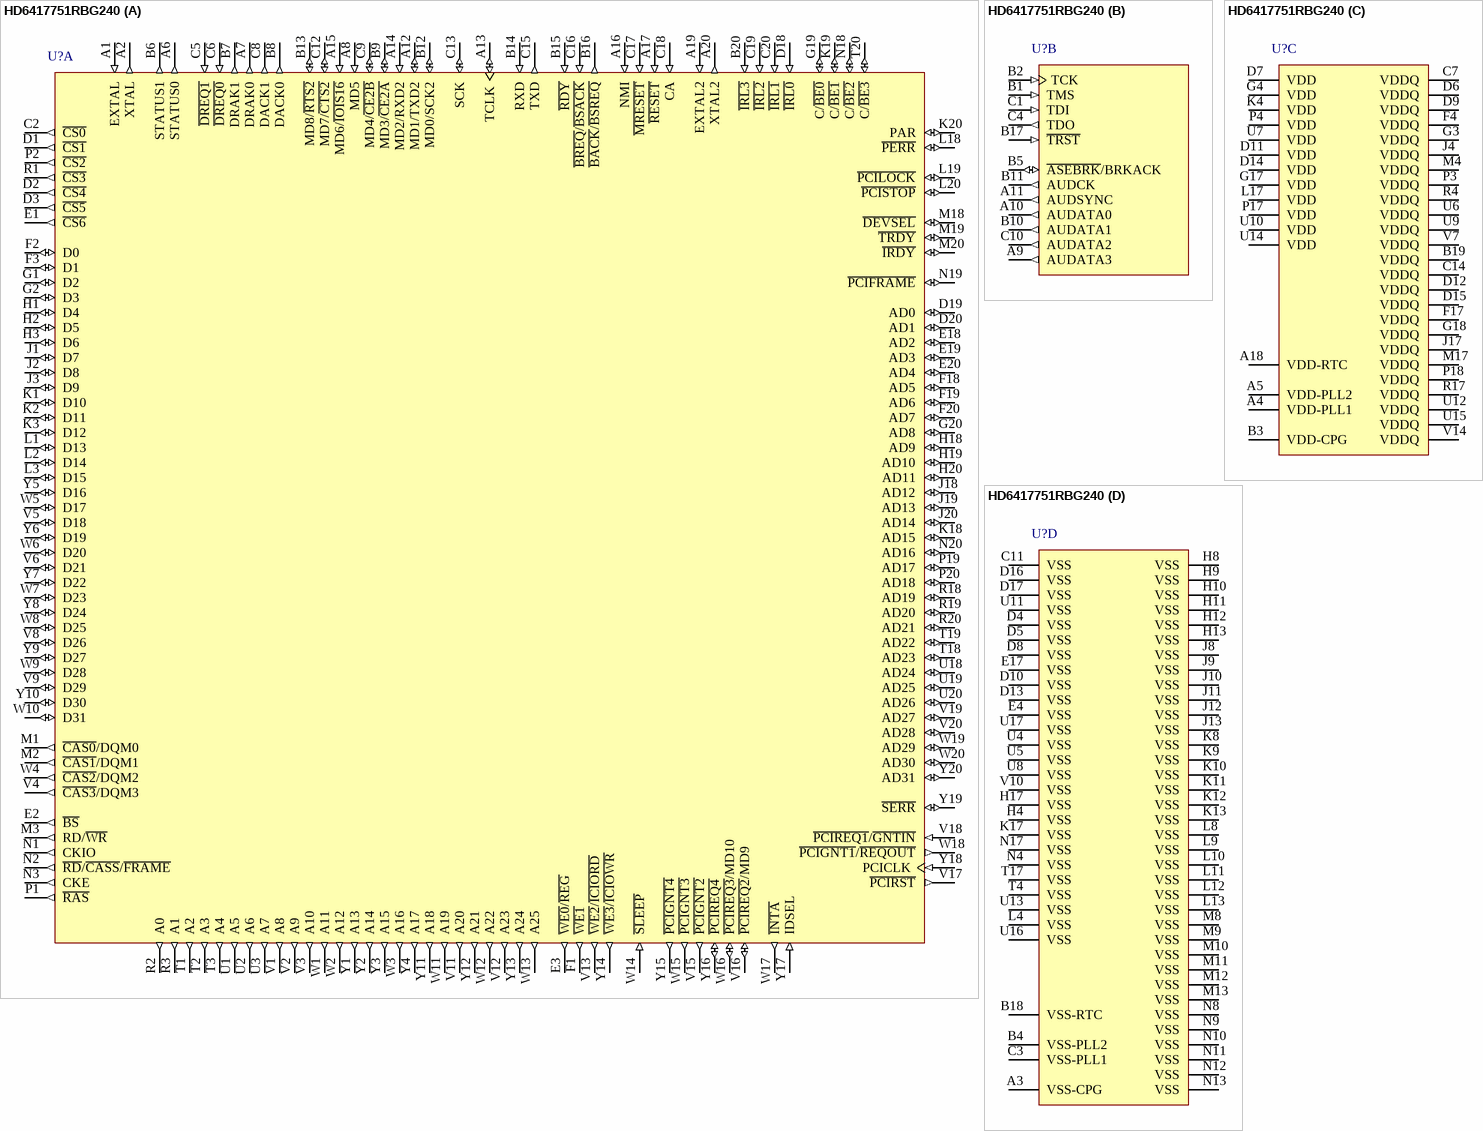
[diagram p92: symbol HD6417751RBG240]

## HD6417751RBG240
designator U?
32-Bit RISC Microcomputer, SH7750 Series, SH-4 core, 1.5V 240MHz, 292-pin BGA, -20 to 75°C; Published: 28-Aug-2009; DatasheetVersion: Rev.4.00, Oct-2008; PackageVersion: Oct-2006; PackageReference: PRBG0292GA-A; Publisher: Altium Limited; PackageDescription: 292-Ball Plastic Fine Pitch Ball Grid Array, 17 x 17 mm Body, 0.8 mm Pitch; Code_JEITA: P-FBGA292-17x17-0.80; ComponentLink1Description: Manufacturer Link; ComponentLink1URL: http://www.renesas.com/fmwk.jsp?cnt=sh7751r_root.jsp&fp=/products/mpumcu/superh_family/sh7750_series/sh7751r_group/; ComponentLink2Description: Datasheet; ComponentLink2URL: http://documentation.renesas.com/eng/products/mpumcu/rej09b0370_7751hm.pdf; ComponentLink3Description: Packaging Specification; ComponentLink3URL: http://sg.renesas.com/media/products/common_info/package/pdf/ic/code/prbg0292ga_a.pdf
footprint PRBG0292GA-A (BGA, 292-Leads, Body 17x17mm, Pitch 0.8mm)
part A pins: A1 EXTAL (in) "External input clock/crystal resonator", A2 XTAL (out) "Crystal resonator", A6 STATUS0 (out) "Status", A7 DRAK0 (out) "DMAC0 request acknowledge", A8 MD5 (in) "Mode", A12 MD1/TXD2 (io) "Mode/SCIF data output", A13 TCLK (io) "RTC/TMU clock", A14 MD2/RXD2 (in) "Mode/SCIF data input", A15 MD6/~{IOIS16} (in) "Mode/IOIS16 (PCMCIA)", A16 NMI (in) "Nonmaskable interrupt", A17 ~{RESET} (in) "Reset", A19 EXTAL2 (in) "RTC crystal resonator pin", A20 XTAL2 (out) "RTC crystal resonator pin", B6 STATUS1 (out) "Status", B7 DRAK1 (out) "DMAC1 request acknowledge", B8 DACK0 (out) "DMAC0 bus acknowledge", B9 MD3/~{CE2A} (io) "Mode/PCMCIA-CE", B12 MD0/SCK2 (io) "Mode/SCIF clock", B13 MD8/~{RTS2} (io) "Mode/SCIF data control (RTS)", B14 RXD (in) "SCI data input", B15 ~{RDY} (in) "Bus ready", B16 ~{BACK}/~{BSREQ} (out) "Bus acknowledge/bus request", B20 ~{IRL3} (in) "Interrupt 3", C2 ~{CS0} (out) "Chip select 0", C5 ~{DREQ1} (in) "Request from DMAC1", C6 ~{DREQ0} (in) "Request from DMAC0", C8 DACK1 (out) "DMAC1 bus acknowledge", C9 MD4/~{CE2B} (io) "Mode/PCMCIA-CE", C12 MD7/~{CTS2} (io) "Mode/SCIF data control (CTS)", C13 SCK (io) "SCIF clock", C15 TXD (out) "SCI data output", C16 ~{BREQ}/~{BSACK} (in) "Bus request/bus acknowledge", C17 ~{MRESET} (in) "Manual reset", C18 CA (in) "Hardware standby", C19 ~{IRL2} (in) "Interrupt 2", C20 ~{IRL1} (in) "Interrupt 1", D1 ~{CS1} (out) "Chip select 1", D2 ~{CS4} (out) "Chip select 4", D3 ~{CS5} (out) "Chip select 5", D18 ~{IRL0} (in) "Interrupt 0", D19 AD0 (io) "PCI address/data/port", D20 AD1 (io) "PCI address/data/port", E1 ~{CS6} (out) "Chip select 6", E2 ~{BS} (out) "Bus start", E3 ~{WE0}/~{REG} (out) "D7-D0 select signal", E18 AD2 (io) "PCI address/data/port", E19 AD3 (io) "PCI address/data/port", E20 AD4 (io) "PCI address/data/port", F1 ~{WE1} (out) "D15-D8 select signal", F2 D0 (io) "Data", F3 D1 (io) "Data", F18 AD5 (io) "PCI address/data/port", F19 AD6 (io) "PCI address/data/port", F20 AD7 (io) "PCI address/data/port", G1 D2 (io) "Data", G2 D3 (io) "Data", G19 C/~{BE0} (io) "Command/byte enable", G20 AD8 (io) "PCI address/data/port", H1 D4 (io) "Data", H2 D5 (io) "Data", H3 D6 (io) "Data", H18 AD9 (io) "PCI address/data/port", H19 AD10 (io) "PCI address/data/port", H20 AD11 (io) "PCI address/data/port", J1 D7 (io) "Data", J2 D8 (io) "Data", J3 D9 (io) "Data", J18 AD12 (io) "PCI address/data/port", J19 AD13 (io) "PCI address/data/port", J20 AD14 (io) "PCI address/data/port", K1 D10 (io) "Data", K2 D11 (io) "Data", K3 D12 (io) "Data", K18 AD15 (io) "PCI address/data/port", K19 C/~{BE1} (io) "Command/byte enable", K20 PAR (io) "Parity", L1 D13 (io) "Data", L2 D14 (io) "Data", L3 D15 (io) "Data", L18 ~{PERR} (io) "Parity error", L19 ~{PCILOCK} (io) "Exclusive access", L20 ~{PCISTOP} (io) "Transaction stop", M1 ~{CAS0}/DQM0 (out) "D7-D0 select signal", M2 ~{CAS1}/DQM1 (out) "D15-D8 select signal", M3 RD/~{WR} (out) "Read/write", M18 ~{DEVSEL} (io) "Device select", M19 ~{TRDY} (io) "Target ready", M20 ~{IRDY} (io) "Initiator ready", N1 CKIO (out) "Clock output", N2 ~{RD}/~{CASS}/~{FRAME} (out) "Read/CAS/FRAME", N3 CKE (out) "Clock output enable", N18 C/~{BE2} (io) "Command/byte enable", N19 ~{PCIFRAME} (io) "Bus cycle", N20 AD16 (io) "PCI address/data/port", P1 ~{RAS} (out) "RAS", P2 ~{CS2} (out) "Chip select 2", P19 AD17 (io) "PCI address/data/port", P20 AD18 (io) "PCI address/data/port", R1 ~{CS3} (out) "Chip select 3", R2 A0 (out) "Address", R3 A1 (out) "Address", R18 AD19 (io) "PCI address/data/port", R19 AD20 (io) "PCI address/data/port", R20 AD21 (io) "PCI address/data/port", T1 A2 (out) "Address", T2 A3 (out) "Address", T3 A4 (out) "Address", T18 AD23 (io) "PCI address/data/port", T19 AD22 (io) "PCI address/data/port", T20 C/~{BE3} (io) "Command/byte enable", U1 A5 (out) "Address", U2 A6 (out) "Address", U3 A7 (out) "Address", U18 AD24 (io) "PCI address/data/port", U19 AD25 (io) "PCI address/data/port", U20 AD26 (io) "PCI address/data/port", V1 A8 (out) "Address", V2 A9 (out) "Address", V3 A10 (out) "Address", V4 ~{CAS3}/DQM3 (out) "D31-D24 select signal", V5 D18 (io) "Data", V6 D21 (io) "Data", V8 D26 (io) "Data", V9 D29 (io) "Data", V11 A20 (out) "Address", V12 A23 (out) "Address", V13 ~{WE2}/~{ICIORD} (out) "D23-D16 select signal", V15 ~{PCIGNT2} (out) "Bus grant (host function)", V16 ~{PCIREQ2}/MD9 (io) "Bus request (host function)/mode MD9", V17 ~{PCIRST} (out) "Reset output", V18 ~{PCIREQ1}/~{GNTIN} (in) "Bus request (host function)/bus grant", V19 AD27 (io) "PCI address/data/port", V20 AD28 (io) "PCI address/data/port", W1 A11 (out) "Address", W2 A12 (out) "Address", W3 A16 (out) "Address", W4 ~{CAS2}/DQM2 (out) "D23-D16 select signal", W5 D17 (io) "Data", W6 D20 (io) "Data", W7 D23 (io) "Data", W8 D25 (io) "Data", W9 D28 (io) "Data", W10 D31 (io) "Data", W11 A19 (out) "Address", W12 A22 (out) "Address", W13 A25 (out) "Address", W14 ~{SLEEP} (in) "Sleep", W15 ~{PCIGNT3} (out) "Bus grant (host function)", W16 ~{PCIREQ3}/MD10 (io) "Bus request (host function)/mode MD10", W17 ~{INTA} (out) "Interrupt (async)", W18 ~{PCIGNT1}/~{REQOUT} (out) "Bus grant (host function)/bus request", W19 AD29 (io) "PCI address/data/port", W20 AD30 (io) "PCI address/data/port", Y1 A13 (out) "Address", Y2 A14 (out) "Address", Y3 A15 (out) "Address", Y4 A17 (out) "Address", Y5 D16 (io) "Data", Y6 D19 (io) "Data", Y7 D22 (io) "Data", Y8 D24 (io) "Data", Y9 D27 (io) "Data", Y10 D30 (io) "Data", Y11 A18 (out) "Address", Y12 A21 (out) "Address", Y13 A24 (out) "Address", Y14 ~{WE3}/~{ICIOWR} (out) "D31-D24 select signal", Y15 ~{PCIGNT4} (out) "Bus grant (host function)", Y16 ~{PCIREQ4} (io) "Bus request (host function)", Y17 IDSEL (in) "Configuration device select", Y18 PCICLK (in) "PCI input clock", Y19 ~{SERR} (io) "System error", Y20 AD31 (io) "PCI address/data/port"
part B pins: A9 AUDATA3 (out) "AUDdata", A10 AUDATA0 (out) "AUDdata", A11 AUDSYNC (out) "AUDsync", B1 TMS (in) "Mode (H-UDI)", B2 TCK (in) "Clock (H-UDI)", B5 ~{ASEBRK}/BRKACK (io) "Pin break/acknowledge (H-UDI)", B10 AUDATA1 (out) "AUDdata", B11 AUDCK (out) "AUDclock", B17 ~{TRST} (in) "Reset (H-UDI)", C1 TDI (in) "Data in (H-UDI)", C4 TDO (out) "Data out (H-UDI)", C10 AUDATA2 (out) "AUDdata"
part C pins: A4 VDD-PLL1 (power) "PLL1 VDD", A5 VDD-PLL2 (power) "PLL2 VDD", A18 VDD-RTC (power) "RTC VDD", B3 VDD-CPG (power) "CPG VDD", B19 VDDQ (power) "IO VDD", C7 VDDQ (power) "IO VDD", C14 VDDQ (power) "IO VDD", D6 VDDQ (power) "IO VDD", D7 VDD (power) "Internal VDD", D9 VDDQ (power) "IO VDD", D11 VDD (power) "Internal VDD", D12 VDDQ (power) "IO VDD", D14 VDD (power) "Internal VDD", D15 VDDQ (power) "IO VDD", F4 VDDQ (power) "IO VDD", F17 VDDQ (power) "IO VDD", G3 VDDQ (power) "IO VDD", G4 VDD (power) "Internal VDD", G17 VDD (power) "Internal VDD", G18 VDDQ (power) "IO VDD", J4 VDDQ (power) "IO VDD", J17 VDDQ (power) "I/O VDD", K4 VDD (power) "Internal VDD", L17 VDD (power) "Internal VDD", M4 VDDQ (power) "IO VDD", M17 VDDQ (power) "IO VDD", P3 VDDQ (power) "IO VDD", P4 VDD (power) "Internal VDD", P17 VDD (power) "Internal VDD", P18 VDDQ (power) "IO VDD", R4 VDDQ (power) "IO VDD", R17 VDDQ (power) "IO VDD", U6 VDDQ (power) "IO VDD", U7 VDD (power) "Internal VDD", U9 VDDQ (power) "IO VDD", U10 VDD (power) "Internal VDD", U12 VDDQ (power) "IO VDD", U14 VDD (power) "Internal VDD", U15 VDDQ (power) "IO VDD", V7 VDDQ (power) "IO VDD", V14 VDDQ (power) "IO VDD"
part D pins: A3 VSS-CPG (power) "CPG GND", B4 VSS-PLL2 (power) "PLL2 GND", B18 VSS-RTC (power) "RTC GND", C3 VSS-PLL1 (power) "PLL1 GND", C11 VSS (power) "GND", D4 VSS (power) "GND", D5 VSS (power) "GND", D8 VSS (power) "GND", D10 VSS (power) "GND", D13 VSS (power) "GND", D16 VSS (power) "GND", D17 VSS (power) "GND", E4 VSS (power) "GND", E17 VSS (power) "GND", H4 VSS (power) "GND", H8 VSS (power) "GND", H9 VSS (power) "GND", H10 VSS (power) "GND", H11 VSS (power) "GND", H12 VSS (power) "GND", H13 VSS (power) "GND", H17 VSS (power) "GND", J8 VSS (power) "GND", J9 VSS (power) "GND", J10 VSS (power) "GND", J11 VSS (power) "GND", J12 VSS (power) "GND", J13 VSS (power) "GND", K8 VSS (power) "GND", K9 VSS (power) "GND", K10 VSS (power) "GND", K11 VSS (power) "GND", K12 VSS (power) "GND", K13 VSS (power) "GND", K17 VSS (power) "GND", L4 VSS (power) "GND", L8 VSS (power) "GND", L9 VSS (power) "GND", L10 VSS (power) "GND", L11 VSS (power) "GND", L12 VSS (power) "GND", L13 VSS (power) "GND", M8 VSS (power) "GND", M9 VSS (power) "GND", M10 VSS (power) "GND", M11 VSS (power) "GND", M12 VSS (power) "GND", M13 VSS (power) "GND", N4 VSS (power) "GND", N8 VSS (power) "GND", N9 VSS (power) "GND", N10 VSS (power) "GND", N11 VSS (power) "GND", N12 VSS (power) "GND", N13 VSS (power) "GND", N17 VSS (power) "GND", T4 VSS (power) "GND", T17 VSS (power) "GND", U4 VSS (power) "GND", U5 VSS (power) "GND", U8 VSS (power) "GND", U11 VSS (power) "GND", U13 VSS (power) "GND", U16 VSS (power) "GND", U17 VSS (power) "GND", V10 VSS (power) "GND"

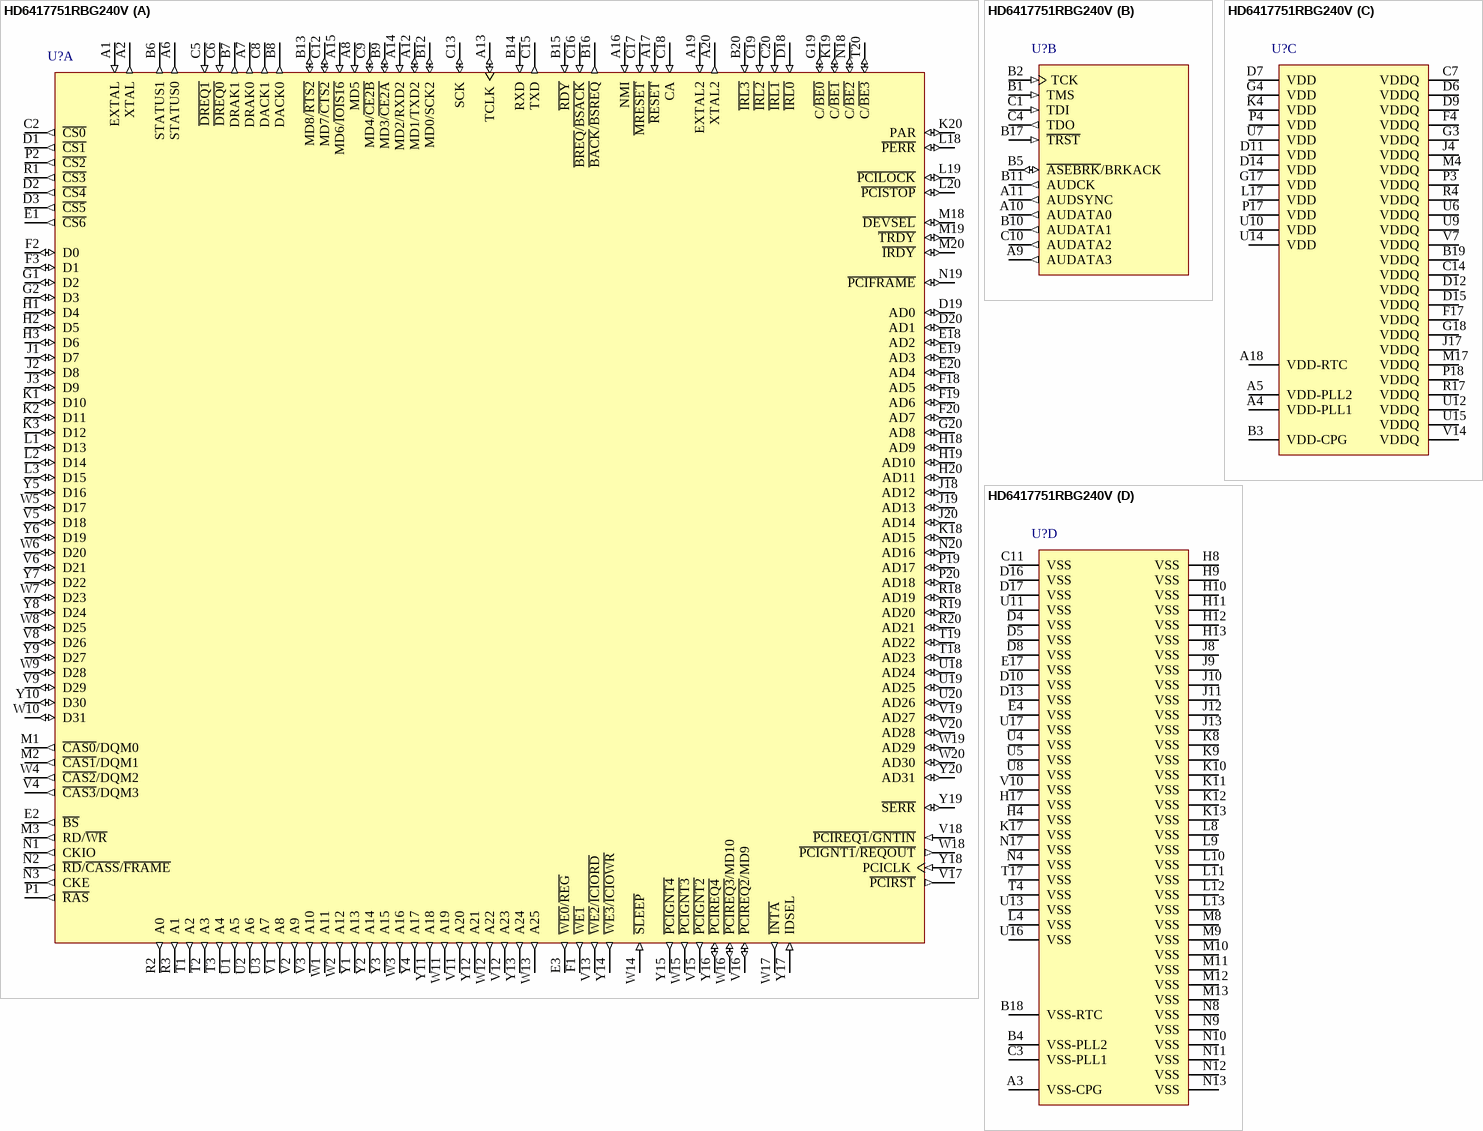
[diagram p93: symbol HD6417751RBG240V]

## HD6417751RBG240V
designator U?
32-Bit RISC Microcomputer, SH7750 Series, SH-4 core, 1.5V 240MHz, 292-pin BGA (Pb-Free), -20 to 75°C; Published: 28-Aug-2009; DatasheetVersion: Rev.4.00, Oct-2008; PackageVersion: Oct-2006; PackageReference: PRBG0292GA-A; Publisher: Altium Limited; PackageDescription: 292-Ball Plastic Fine Pitch Ball Grid Array, 17 x 17 mm Body, 0.8 mm Pitch; Code_JEITA: P-FBGA292-17x17-0.80; ComponentLink1Description: Manufacturer Link; ComponentLink1URL: http://www.renesas.com/fmwk.jsp?cnt=sh7751r_root.jsp&fp=/products/mpumcu/superh_family/sh7750_series/sh7751r_group/; ComponentLink2Description: Datasheet; ComponentLink2URL: http://documentation.renesas.com/eng/products/mpumcu/rej09b0370_7751hm.pdf; ComponentLink3Description: Packaging Specification; ComponentLink3URL: http://sg.renesas.com/media/products/common_info/package/pdf/ic/code/prbg0292ga_a.pdf
footprint PRBG0292GA-A (BGA, 292-Leads, Body 17x17mm, Pitch 0.8mm)
part A pins: A1 EXTAL (in) "External input clock/crystal resonator", A2 XTAL (out) "Crystal resonator", A6 STATUS0 (out) "Status", A7 DRAK0 (out) "DMAC0 request acknowledge", A8 MD5 (in) "Mode", A12 MD1/TXD2 (io) "Mode/SCIF data output", A13 TCLK (io) "RTC/TMU clock", A14 MD2/RXD2 (in) "Mode/SCIF data input", A15 MD6/~{IOIS16} (in) "Mode/IOIS16 (PCMCIA)", A16 NMI (in) "Nonmaskable interrupt", A17 ~{RESET} (in) "Reset", A19 EXTAL2 (in) "RTC crystal resonator pin", A20 XTAL2 (out) "RTC crystal resonator pin", B6 STATUS1 (out) "Status", B7 DRAK1 (out) "DMAC1 request acknowledge", B8 DACK0 (out) "DMAC0 bus acknowledge", B9 MD3/~{CE2A} (io) "Mode/PCMCIA-CE", B12 MD0/SCK2 (io) "Mode/SCIF clock", B13 MD8/~{RTS2} (io) "Mode/SCIF data control (RTS)", B14 RXD (in) "SCI data input", B15 ~{RDY} (in) "Bus ready", B16 ~{BACK}/~{BSREQ} (out) "Bus acknowledge/bus request", B20 ~{IRL3} (in) "Interrupt 3", C2 ~{CS0} (out) "Chip select 0", C5 ~{DREQ1} (in) "Request from DMAC1", C6 ~{DREQ0} (in) "Request from DMAC0", C8 DACK1 (out) "DMAC1 bus acknowledge", C9 MD4/~{CE2B} (io) "Mode/PCMCIA-CE", C12 MD7/~{CTS2} (io) "Mode/SCIF data control (CTS)", C13 SCK (io) "SCIF clock", C15 TXD (out) "SCI data output", C16 ~{BREQ}/~{BSACK} (in) "Bus request/bus acknowledge", C17 ~{MRESET} (in) "Manual reset", C18 CA (in) "Hardware standby", C19 ~{IRL2} (in) "Interrupt 2", C20 ~{IRL1} (in) "Interrupt 1", D1 ~{CS1} (out) "Chip select 1", D2 ~{CS4} (out) "Chip select 4", D3 ~{CS5} (out) "Chip select 5", D18 ~{IRL0} (in) "Interrupt 0", D19 AD0 (io) "PCI address/data/port", D20 AD1 (io) "PCI address/data/port", E1 ~{CS6} (out) "Chip select 6", E2 ~{BS} (out) "Bus start", E3 ~{WE0}/~{REG} (out) "D7-D0 select signal", E18 AD2 (io) "PCI address/data/port", E19 AD3 (io) "PCI address/data/port", E20 AD4 (io) "PCI address/data/port", F1 ~{WE1} (out) "D15-D8 select signal", F2 D0 (io) "Data", F3 D1 (io) "Data", F18 AD5 (io) "PCI address/data/port", F19 AD6 (io) "PCI address/data/port", F20 AD7 (io) "PCI address/data/port", G1 D2 (io) "Data", G2 D3 (io) "Data", G19 C/~{BE0} (io) "Command/byte enable", G20 AD8 (io) "PCI address/data/port", H1 D4 (io) "Data", H2 D5 (io) "Data", H3 D6 (io) "Data", H18 AD9 (io) "PCI address/data/port", H19 AD10 (io) "PCI address/data/port", H20 AD11 (io) "PCI address/data/port", J1 D7 (io) "Data", J2 D8 (io) "Data", J3 D9 (io) "Data", J18 AD12 (io) "PCI address/data/port", J19 AD13 (io) "PCI address/data/port", J20 AD14 (io) "PCI address/data/port", K1 D10 (io) "Data", K2 D11 (io) "Data", K3 D12 (io) "Data", K18 AD15 (io) "PCI address/data/port", K19 C/~{BE1} (io) "Command/byte enable", K20 PAR (io) "Parity", L1 D13 (io) "Data", L2 D14 (io) "Data", L3 D15 (io) "Data", L18 ~{PERR} (io) "Parity error", L19 ~{PCILOCK} (io) "Exclusive access", L20 ~{PCISTOP} (io) "Transaction stop", M1 ~{CAS0}/DQM0 (out) "D7-D0 select signal", M2 ~{CAS1}/DQM1 (out) "D15-D8 select signal", M3 RD/~{WR} (out) "Read/write", M18 ~{DEVSEL} (io) "Device select", M19 ~{TRDY} (io) "Target ready", M20 ~{IRDY} (io) "Initiator ready", N1 CKIO (out) "Clock output", N2 ~{RD}/~{CASS}/~{FRAME} (out) "Read/CAS/FRAME", N3 CKE (out) "Clock output enable", N18 C/~{BE2} (io) "Command/byte enable", N19 ~{PCIFRAME} (io) "Bus cycle", N20 AD16 (io) "PCI address/data/port", P1 ~{RAS} (out) "RAS", P2 ~{CS2} (out) "Chip select 2", P19 AD17 (io) "PCI address/data/port", P20 AD18 (io) "PCI address/data/port", R1 ~{CS3} (out) "Chip select 3", R2 A0 (out) "Address", R3 A1 (out) "Address", R18 AD19 (io) "PCI address/data/port", R19 AD20 (io) "PCI address/data/port", R20 AD21 (io) "PCI address/data/port", T1 A2 (out) "Address", T2 A3 (out) "Address", T3 A4 (out) "Address", T18 AD23 (io) "PCI address/data/port", T19 AD22 (io) "PCI address/data/port", T20 C/~{BE3} (io) "Command/byte enable", U1 A5 (out) "Address", U2 A6 (out) "Address", U3 A7 (out) "Address", U18 AD24 (io) "PCI address/data/port", U19 AD25 (io) "PCI address/data/port", U20 AD26 (io) "PCI address/data/port", V1 A8 (out) "Address", V2 A9 (out) "Address", V3 A10 (out) "Address", V4 ~{CAS3}/DQM3 (out) "D31-D24 select signal", V5 D18 (io) "Data", V6 D21 (io) "Data", V8 D26 (io) "Data", V9 D29 (io) "Data", V11 A20 (out) "Address", V12 A23 (out) "Address", V13 ~{WE2}/~{ICIORD} (out) "D23-D16 select signal", V15 ~{PCIGNT2} (out) "Bus grant (host function)", V16 ~{PCIREQ2}/MD9 (io) "Bus request (host function)/mode MD9", V17 ~{PCIRST} (out) "Reset output", V18 ~{PCIREQ1}/~{GNTIN} (in) "Bus request (host function)/bus grant", V19 AD27 (io) "PCI address/data/port", V20 AD28 (io) "PCI address/data/port", W1 A11 (out) "Address", W2 A12 (out) "Address", W3 A16 (out) "Address", W4 ~{CAS2}/DQM2 (out) "D23-D16 select signal", W5 D17 (io) "Data", W6 D20 (io) "Data", W7 D23 (io) "Data", W8 D25 (io) "Data", W9 D28 (io) "Data", W10 D31 (io) "Data", W11 A19 (out) "Address", W12 A22 (out) "Address", W13 A25 (out) "Address", W14 ~{SLEEP} (in) "Sleep", W15 ~{PCIGNT3} (out) "Bus grant (host function)", W16 ~{PCIREQ3}/MD10 (io) "Bus request (host function)/mode MD10", W17 ~{INTA} (out) "Interrupt (async)", W18 ~{PCIGNT1}/~{REQOUT} (out) "Bus grant (host function)/bus request", W19 AD29 (io) "PCI address/data/port", W20 AD30 (io) "PCI address/data/port", Y1 A13 (out) "Address", Y2 A14 (out) "Address", Y3 A15 (out) "Address", Y4 A17 (out) "Address", Y5 D16 (io) "Data", Y6 D19 (io) "Data", Y7 D22 (io) "Data", Y8 D24 (io) "Data", Y9 D27 (io) "Data", Y10 D30 (io) "Data", Y11 A18 (out) "Address", Y12 A21 (out) "Address", Y13 A24 (out) "Address", Y14 ~{WE3}/~{ICIOWR} (out) "D31-D24 select signal", Y15 ~{PCIGNT4} (out) "Bus grant (host function)", Y16 ~{PCIREQ4} (io) "Bus request (host function)", Y17 IDSEL (in) "Configuration device select", Y18 PCICLK (in) "PCI input clock", Y19 ~{SERR} (io) "System error", Y20 AD31 (io) "PCI address/data/port"
part B pins: A9 AUDATA3 (out) "AUDdata", A10 AUDATA0 (out) "AUDdata", A11 AUDSYNC (out) "AUDsync", B1 TMS (in) "Mode (H-UDI)", B2 TCK (in) "Clock (H-UDI)", B5 ~{ASEBRK}/BRKACK (io) "Pin break/acknowledge (H-UDI)", B10 AUDATA1 (out) "AUDdata", B11 AUDCK (out) "AUDclock", B17 ~{TRST} (in) "Reset (H-UDI)", C1 TDI (in) "Data in (H-UDI)", C4 TDO (out) "Data out (H-UDI)", C10 AUDATA2 (out) "AUDdata"
part C pins: A4 VDD-PLL1 (power) "PLL1 VDD", A5 VDD-PLL2 (power) "PLL2 VDD", A18 VDD-RTC (power) "RTC VDD", B3 VDD-CPG (power) "CPG VDD", B19 VDDQ (power) "IO VDD", C7 VDDQ (power) "IO VDD", C14 VDDQ (power) "IO VDD", D6 VDDQ (power) "IO VDD", D7 VDD (power) "Internal VDD", D9 VDDQ (power) "IO VDD", D11 VDD (power) "Internal VDD", D12 VDDQ (power) "IO VDD", D14 VDD (power) "Internal VDD", D15 VDDQ (power) "IO VDD", F4 VDDQ (power) "IO VDD", F17 VDDQ (power) "IO VDD", G3 VDDQ (power) "IO VDD", G4 VDD (power) "Internal VDD", G17 VDD (power) "Internal VDD", G18 VDDQ (power) "IO VDD", J4 VDDQ (power) "IO VDD", J17 VDDQ (power) "I/O VDD", K4 VDD (power) "Internal VDD", L17 VDD (power) "Internal VDD", M4 VDDQ (power) "IO VDD", M17 VDDQ (power) "IO VDD", P3 VDDQ (power) "IO VDD", P4 VDD (power) "Internal VDD", P17 VDD (power) "Internal VDD", P18 VDDQ (power) "IO VDD", R4 VDDQ (power) "IO VDD", R17 VDDQ (power) "IO VDD", U6 VDDQ (power) "IO VDD", U7 VDD (power) "Internal VDD", U9 VDDQ (power) "IO VDD", U10 VDD (power) "Internal VDD", U12 VDDQ (power) "IO VDD", U14 VDD (power) "Internal VDD", U15 VDDQ (power) "IO VDD", V7 VDDQ (power) "IO VDD", V14 VDDQ (power) "IO VDD"
part D pins: A3 VSS-CPG (power) "CPG GND", B4 VSS-PLL2 (power) "PLL2 GND", B18 VSS-RTC (power) "RTC GND", C3 VSS-PLL1 (power) "PLL1 GND", C11 VSS (power) "GND", D4 VSS (power) "GND", D5 VSS (power) "GND", D8 VSS (power) "GND", D10 VSS (power) "GND", D13 VSS (power) "GND", D16 VSS (power) "GND", D17 VSS (power) "GND", E4 VSS (power) "GND", E17 VSS (power) "GND", H4 VSS (power) "GND", H8 VSS (power) "GND", H9 VSS (power) "GND", H10 VSS (power) "GND", H11 VSS (power) "GND", H12 VSS (power) "GND", H13 VSS (power) "GND", H17 VSS (power) "GND", J8 VSS (power) "GND", J9 VSS (power) "GND", J10 VSS (power) "GND", J11 VSS (power) "GND", J12 VSS (power) "GND", J13 VSS (power) "GND", K8 VSS (power) "GND", K9 VSS (power) "GND", K10 VSS (power) "GND", K11 VSS (power) "GND", K12 VSS (power) "GND", K13 VSS (power) "GND", K17 VSS (power) "GND", L4 VSS (power) "GND", L8 VSS (power) "GND", L9 VSS (power) "GND", L10 VSS (power) "GND", L11 VSS (power) "GND", L12 VSS (power) "GND", L13 VSS (power) "GND", M8 VSS (power) "GND", M9 VSS (power) "GND", M10 VSS (power) "GND", M11 VSS (power) "GND", M12 VSS (power) "GND", M13 VSS (power) "GND", N4 VSS (power) "GND", N8 VSS (power) "GND", N9 VSS (power) "GND", N10 VSS (power) "GND", N11 VSS (power) "GND", N12 VSS (power) "GND", N13 VSS (power) "GND", N17 VSS (power) "GND", T4 VSS (power) "GND", T17 VSS (power) "GND", U4 VSS (power) "GND", U5 VSS (power) "GND", U8 VSS (power) "GND", U11 VSS (power) "GND", U13 VSS (power) "GND", U16 VSS (power) "GND", U17 VSS (power) "GND", V10 VSS (power) "GND"

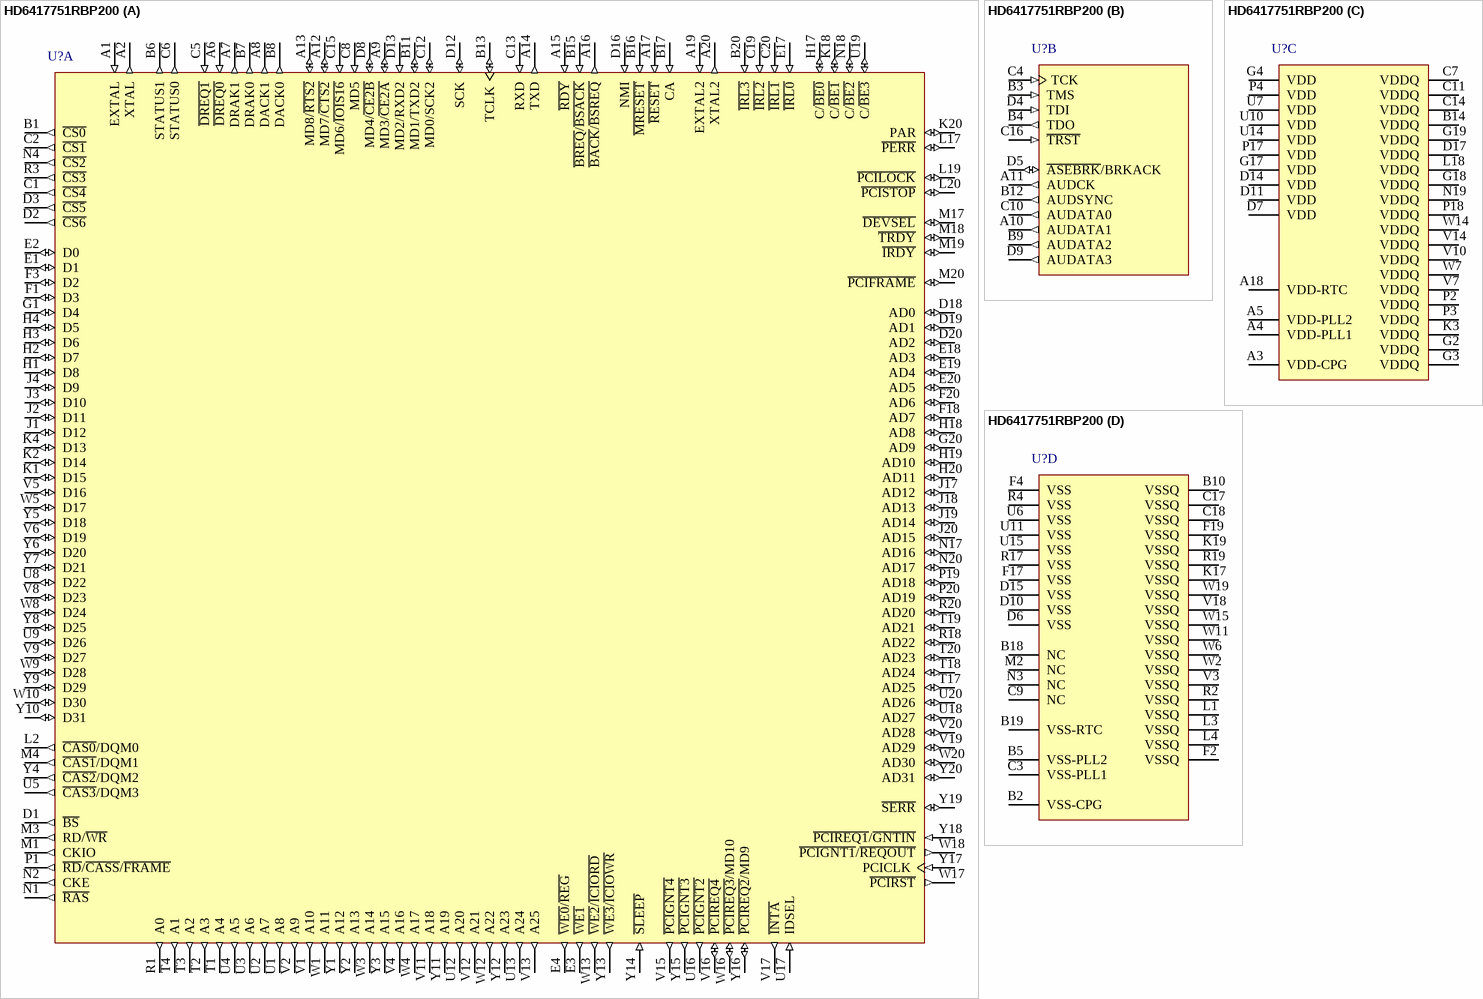
[diagram p94: symbol HD6417751RBP200]